# Altium integrated library Silicon Labs Clocks and Oscillators.IntLib: 678 symbols (part 7 of 45)
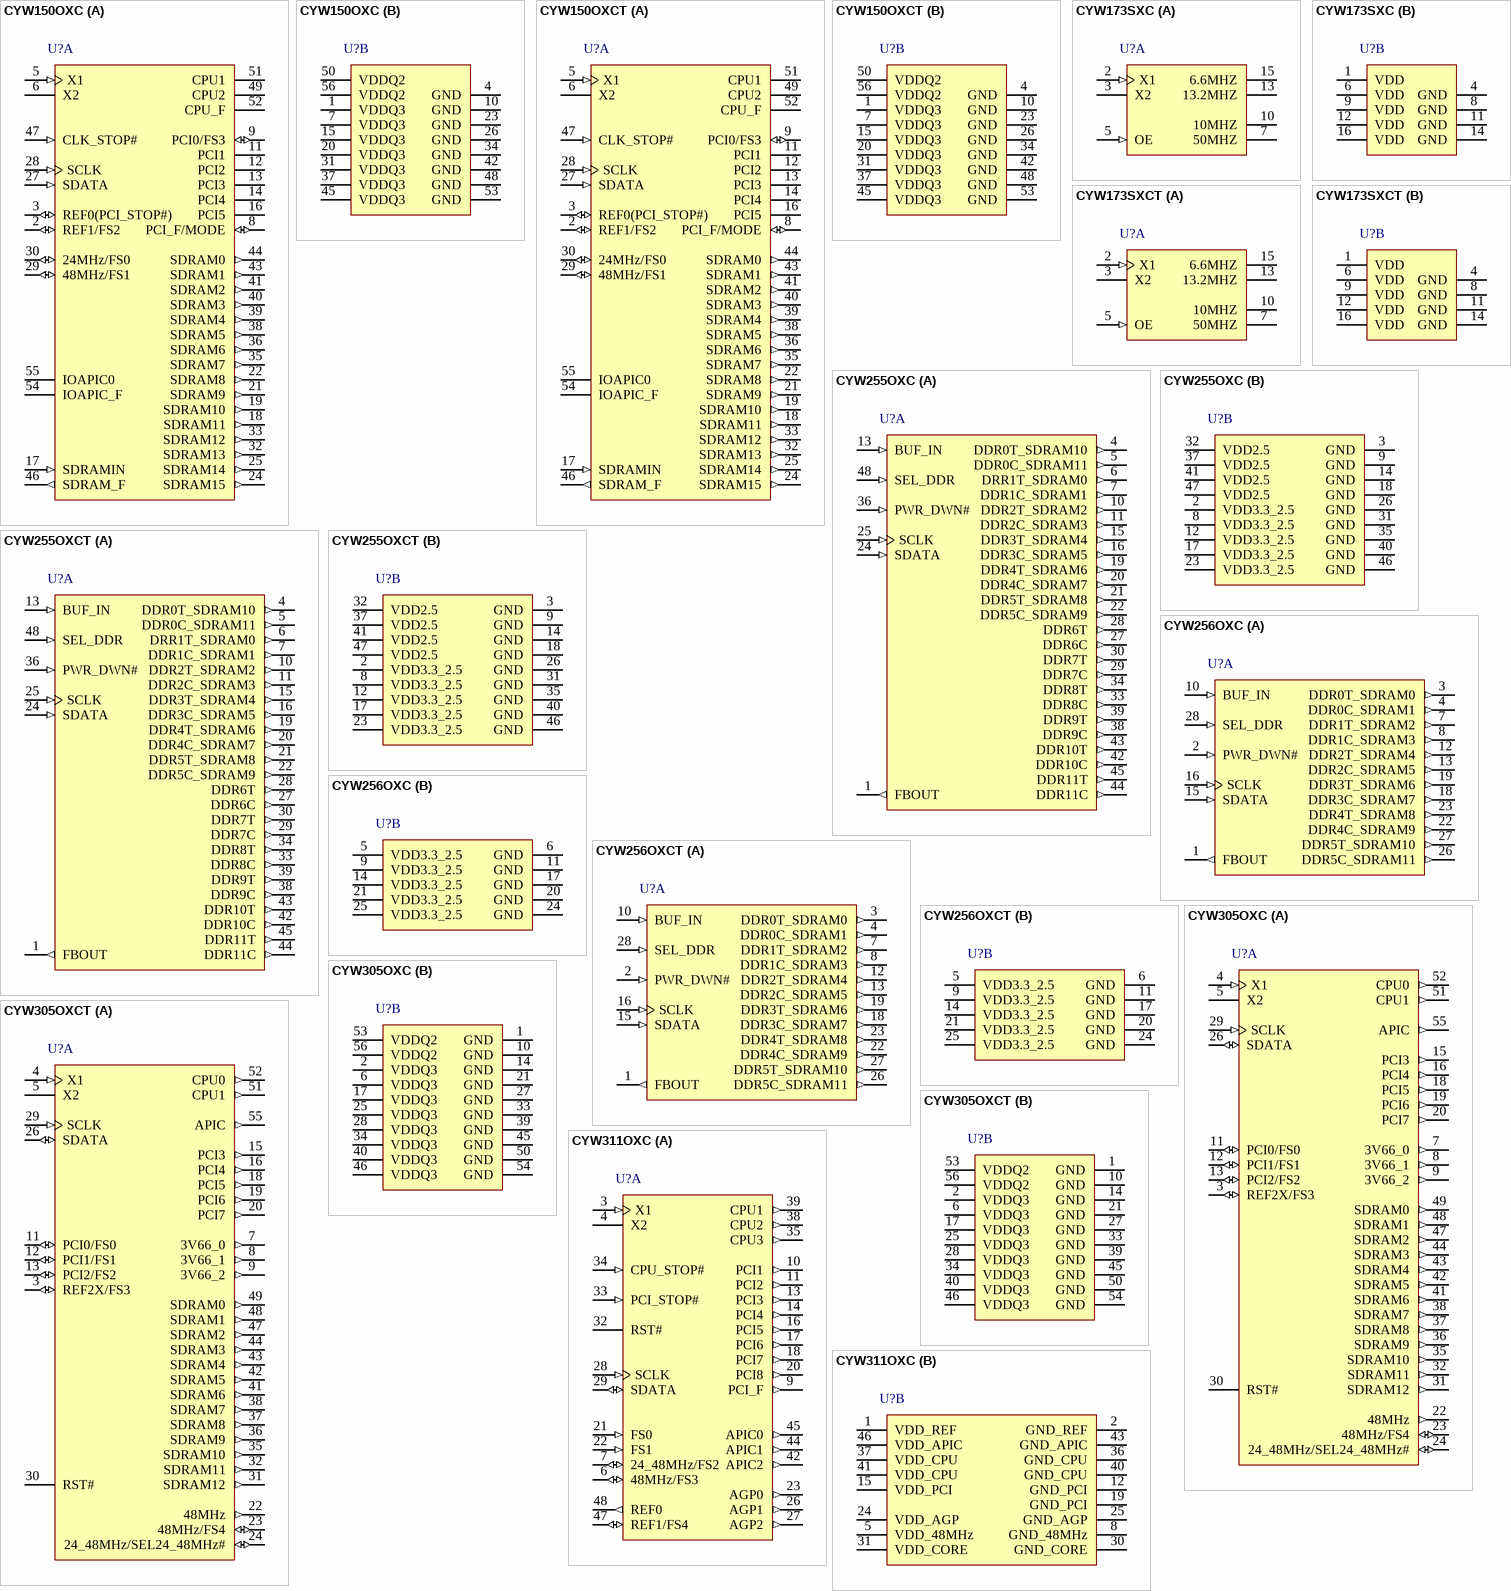
[diagram p50: symbols CYW150OXC to CYW311OXC]

## CYW255OXCT
designator U?
24 Output Buffer for 4 DDR or 3 SDRAM DIMMS, 2.5 / 3.3 V, 66 to 200 MHz Output, 0 to 70 degC, 48-pin SOP, Tape and Reel; Manufacturer: Silicon Labs; PartNumber: CYW255OXCT; Output Format: SSTL2; LVCMOS; Phase Jitter (RMS): > 1 ps; Reference Inputs: 1; VDD: 2.5 V; 3.3 V; Sub-Family: Clock Generators; DatasheetVersion: Rev. *D; PackageReference: SSOP-48; PackageDescription: 48-Pin Shrink Small-Outline Package, Body 15.875 x 7.51 mm, Pitch 0.635 mm; Supplier 1: Digi-Key; Supplier Part Number 1: CYW255OXCT-ND; Supplier 2: Mouser; Supplier Part Number 2: 634-CYW255OXCT; Output Frequency (MHz): 66 to 200; Packing: Tape and Reel; Mounting Technology: Surface Mount; ComponentLink1Description: Manufacturer URL; ComponentLink1URL: http://www.silabs.com/; ComponentLink2Description: Datasheet; ComponentLink2URL: http://www.silabs.com/Support%20Documents/TechnicalDocs/W255.pdf; ComponentLink3Description: Package Specification; ComponentLink3URL: http://www.silabs.com/Support%20Documents/TechnicalDocs/W255.pdf
footprint SLAB-SSOP-48_N (SOP, 48-Leads, Body 16x7.6mm, Pitch 0.635mm, IPC Medium Density)
footprint SLAB-SSOP-48_L (SOP, 48-Leads, Body 16x7.6mm, Pitch 0.635mm, IPC High Density)
footprint SLAB-SSOP-48_M (SOP, 48-Leads, Body 16x7.6mm, Pitch 0.635mm, IPC Low Density)
part A pins: 1 FBOUT (out) "Feedback clock for chipset. Output voltage depends on VDD3.3_2.5V.", 4 DDR0T_SDRAM10 (out) "Clock outputs. These outputs provide copies of BUF_IN. Voltage swing depends on VDD3.3_2.5 power supply.", 5 DDR0C_SDRAM11 (out) "Clock outputs. These outputs provide complementary copies of BUF_IN when SEL_DDR is active. These outputs provide copies of BUF_IN when SEL_DDR is inactive. Voltage swing depends on VDD3.3_2.5 power supply.", 6 DRR1T_SDRAM0 (out) "Clock outputs. These outputs provide copies of BUF_IN. Voltage swing depends on VDD3.3_2.5 power supply.", 7 DDR1C_SDRAM1 (out) "Clock outputs. These outputs provide complementary copies of BUF_IN when SEL_DDR is active. These outputs provide copies of BUF_IN when SEL_DDR is inactive. Voltage swing depends on VDD3.3_2.5 power supply.", 10 DDR2T_SDRAM2 (out) "Clock outputs. These outputs provide copies of BUF_IN. Voltage swing depends on VDD3.3_2.5 power supply.", 11 DDR2C_SDRAM3 (out) "Clock outputs. These outputs provide complementary copies of BUF_IN when SEL_DDR is active. These outputs provide copies of BUF_IN when SEL_DDR is inactive. Voltage swing depends on VDD3.3_2.5 power supply.", 13 BUF_IN (in) "Reference input from chipset. 2.5V input for DDR-ONLY mode; 3.3V input for STANDARD SDRAM mode.", 15 DDR3T_SDRAM4 (out) "Clock outputs. These outputs provide copies of BUF_IN. Voltage swing depends on VDD3.3_2.5 power supply.", 16 DDR3C_SDRAM5 (out) "Clock outputs. These outputs provide complementary copies of BUF_IN when SEL_DDR is active. These outputs provide copies of BUF_IN when SEL_DDR is inactive. Voltage swing depends on VDD3.3_2.5 power supply.", 19 DDR4T_SDRAM6 (out) "Clock outputs. These outputs provide copies of BUF_IN. Voltage swing depends on VDD3.3_2.5 power supply.", 20 DDR4C_SDRAM7 (out) "Clock outputs. These outputs provide complementary copies of BUF_IN when SEL_DDR is active. These outputs provide copies of BUF_IN when SEL_DDR is inactive. Voltage swing depends on VDD3.3_2.5 power supply.", 21 DDR5T_SDRAM8 (out) "Clock outputs. These outputs provide copies of BUF_IN. Voltage swing depends on VDD3.3_2.5 power supply.", 22 DDR5C_SDRAM9 (out) "Clock outputs. These outputs provide complementary copies of BUF_IN when SEL_DDR is active. These outputs provide copies of BUF_IN when SEL_DDR is inactive. Voltage swing depends on VDD3.3_2.5 power supply.", 24 SDATA (in) "SMBus data input", 25 SCLK (in) "SMBus clock input", 27 DDR6C (out) "Clock outputs. These outputs provide complementary copies of BUF_IN.", 28 DDR6T (out) "Clock outputs. These outputs provide copies of BUF_IN.", 29 DDR7C (out) "Clock outputs. These outputs provide complementary copies of BUF_IN.", 30 DDR7T (out) "Clock outputs. These outputs provide copies of BUF_IN.", 33 DDR8C (out) "Clock outputs. These outputs provide complementary copies of BUF_IN.", 34 DDR8T (out) "Clock outputs. These outputs provide copies of BUF_IN.", 36 PWR_DWN# (in) "Active LOW input to enable power-down mode; all outputs will be pulled LOW.", 38 DDR9C (out) "Clock outputs. These outputs provide complementary copies of BUF_IN.", 39 DDR9T (out) "Clock outputs. These outputs provide copies of BUF_IN.", 42 DDR10C (out) "Clock outputs. These outputs provide complementary copies of BUF_IN.", 43 DDR10T (out) "Clock outputs. These outputs provide copies of BUF_IN.", 44 DDR11C (out) "Clock outputs. These outputs provide complementary copies of BUF_IN.", 45 DDR11T (out) "Clock outputs. These outputs provide copies of BUF_IN.", 48 SEL_DDR (in) "Input to configure for DDR-ONLY mode or STANDARD SDRAM mode. 1 = DDR-ONLY mode. 0 = STANDARD SDRAM mode. When SEL_DDR is pulled HIGH or configured for DDR-ONLY mode, pin 4, 5, 6, 7, 10, 11,15, 16, 19, 20, 21, 22, 27, 28, 29, (See Datasheet)"
part B pins: 2 VDD3.3_2.5 (power) "Connect to 2.5V power supply when W255 is configured for DDR-ONLY mode. Connect to 3.3V power supply, when W255 is configured for standard SDRAM mode.", 3 GND (power) "Ground", 8 VDD3.3_2.5 (power) "Connect to 2.5V power supply when W255 is configured for DDR-ONLY mode. Connect to 3.3V power supply, when W255 is configured for standard SDRAM mode.", 9 GND (power) "Ground", 12 VDD3.3_2.5 (power) "Connect to 2.5V power supply when W255 is configured for DDR-ONLY mode. Connect to 3.3V power supply, when W255 is configured for standard SDRAM mode.", 14 GND (power) "Ground", 17 VDD3.3_2.5 (power) "Connect to 2.5V power supply when W255 is configured for DDR-ONLY mode. Connect to 3.3V power supply, when W255 is configured for standard SDRAM mode.", 18 GND (power) "Ground", 23 VDD3.3_2.5 (power) "Connect to 2.5V power supply when W255 is configured for DDR-ONLY mode. Connect to 3.3V power supply, when W255 is configured for standard SDRAM mode.", 26 GND (power) "Ground", 31 GND (power) "Ground", 32 VDD2.5 (power) "2.5V voltage supply", 35 GND (power) "Ground", 37 VDD2.5 (power) "2.5V voltage supply", 40 GND (power) "Ground", 41 VDD2.5 (power) "2.5V voltage supply", 46 GND (power) "Ground", 47 VDD2.5 (power) "2.5V voltage supply"

## CYW256OXC
designator U?
12 Output Buffer for 2 DDR and 3 SRAM DIMMS, 2.5 / 3.3 V, 66 to 180 MHz Output, 0 to 70 degC, 28-pin SOP; Manufacturer: Silicon Labs; PartNumber: CYW256OXC; Output Format: SSTL2; LVCMOS; Reference Inputs: 1; VDD: 2.5 V; 3.3 V; Sub-Family: Clock Generators; DatasheetVersion: Rev. *C; PackageReference: SSOP-28; PackageDescription: 28-Pin Shrink Small-Outline Package, Body 10.2 x 5.3 mm, Pitch 0.65 mm; Supplier 1: Digi-Key; Supplier Part Number 1: CYW256OXC-ND; Supplier 2: Mouser; Supplier Part Number 2: 634-CYW256OXC; Output Frequency (MHz): 66 to 180; Mounting Technology: Surface Mount; ComponentLink1Description: Manufacturer URL; ComponentLink1URL: http://www.silabs.com/; ComponentLink2Description: Datasheet; ComponentLink2URL: http://www.silabs.com/Support%20Documents/TechnicalDocs/W256.pdf; ComponentLink3Description: Package Specification; ComponentLink3URL: http://www.silabs.com/Support%20Documents/TechnicalDocs/W256.pdf
footprint SLAB-SSOP-28_N (SOP, 28-Leads, Body 10.4x5.6mm, Pitch 0.65mm, IPC Medium Density)
footprint SLAB-SSOP-28_L (SOP, 28-Leads, Body 10.4x5.6mm, Pitch 0.65mm, IPC High Density)
footprint SLAB-SSOP-28_M (SOP, 28-Leads, Body 10.4x5.6mm, Pitch 0.65mm, IPC Low Density)
part A pins: 1 FBOUT (out) "Feedback clock for chipset. Output voltage depends on VDD3.3_2.5V.", 2 PWR_DWN# (in) "Active LOW input to enable Power Down mode; all outputs will be pulled LOW.", 3 DDR0T_SDRAM0 (out) "Clock outputs. These outputs provide copies of BUF_IN. Voltage swing depends on VDD3.3_2.5 power supply.", 4 DDR0C_SDRAM1 (out) "Clock outputs. These outputs provide complementary copies of BUF_IN when SEL_DDR is active. These outputs provide copies of BUF_IN when SEL_DDR is inactive. Voltage swing depends on VDD3.3_2.5 power supply.", 7 DDR1T_SDRAM2 (out) "Clock outputs. These outputs provide copies of BUF_IN. Voltage swing depends on VDD3.3_2.5 power supply.", 8 DDR1C_SDRAM3 (out) "Clock outputs. These outputs provide complementary copies of BUF_IN when SEL_DDR is active. These outputs provide copies of BUF_IN when SEL_DDR is inactive. Voltage swing depends on VDD3.3_2.5 power supply.", 10 BUF_IN (in) "Reference input from chipset. 2.5V input for DDR-ONLY mode; 3.3V input for STANDARD SDRAM mode.", 12 DDR2T_SDRAM4 (out) "Clock outputs. These outputs provide copies of BUF_IN. Voltage swing depends on VDD3.3_2.5 power supply.", 13 DDR2C_SDRAM5 (out) "Clock outputs. These outputs provide complementary copies of BUF_IN when SEL_DDR is active. These outputs provide copies of BUF_IN when SEL_DDR is inactive. Voltage swing depends on VDD3.3_2.5 power supply.", 15 SDATA (in) "SMBus data input.", 16 SCLK (in) "SMBus clock input.", 18 DDR3C_SDRAM7 (out) "Clock outputs. These outputs provide complementary copies of BUF_IN when SEL_DDR is active. These outputs provide copies of BUF_IN when SEL_DDR is inactive. Voltage swing depends on VDD3.3_2.5 power supply.", 19 DDR3T_SDRAM6 (out) "Clock outputs. These outputs provide copies of BUF_IN. Voltage swing depends on VDD3.3_2.5 power supply.", 22 DDR4C_SDRAM9 (out) "Clock outputs. These outputs provide complementary copies of BUF_IN when SEL_DDR is active. These outputs provide copies of BUF_IN when SEL_DDR is inactive. Voltage swing depends on VDD3.3_2.5 power supply.", 23 DDR4T_SDRAM8 (out) "Clock outputs. These outputs provide copies of BUF_IN. Voltage swing depends on VDD3.3_2.5 power supply.", 26 DDR5C_SDRAM11 (out) "Clock outputs. These outputs provide complementary copies of BUF_IN when SEL_DDR is active. These outputs provide copies of BUF_IN when SEL_DDR is inactive. Voltage swing depends on VDD3.3_2.5 power supply.", 27 DDR5T_SDRAM10 (out) "Clock outputs. These outputs provide copies of BUF_IN. Voltage swing depends on VDD3.3_2.5 power supply.", 28 SEL_DDR (in) "Input to configure for DDR-ONLY mode or STANDARD SDRAM mode. 1 = DDR-ONLY mode. 0 = STANDARD SDRAM mode. When SEL_DDR is pulled HIGH or configured for DDR-ONLY mode, all the buffers will be configured as DDR outputs. Connect (See Datasheet)"
part B pins: 5 VDD3.3_2.5 (power) "Connect to 2.5V power supply when W256 is configured for DDR-ONLY mode. Connect to 3.3V power supply, when W256 is configured for standard SDRAM mode.", 6 GND (power) "Ground.", 9 VDD3.3_2.5 (power) "Connect to 2.5V power supply when W256 is configured for DDR-ONLY mode. Connect to 3.3V power supply, when W256 is configured for standard SDRAM mode.", 11 GND (power) "Ground.", 14 VDD3.3_2.5 (power) "Connect to 2.5V power supply when W256 is configured for DDR-ONLY mode. Connect to 3.3V power supply, when W256 is configured for standard SDRAM mode.", 17 GND (power) "Ground.", 20 GND (power) "Ground.", 21 VDD3.3_2.5 (power) "Connect to 2.5V power supply when W256 is configured for DDR-ONLY mode. Connect to 3.3V power supply, when W256 is configured for standard SDRAM mode.", 24 GND (power) "Ground.", 25 VDD3.3_2.5 (power) "Connect to 2.5V power supply when W256 is configured for DDR-ONLY mode. Connect to 3.3V power supply, when W256 is configured for standard SDRAM mode."

## CYW256OXCT
designator U?
12 Output Buffer for 2 DDR and 3 SRAM DIMMS, 2.5 / 3.3 V, 66 to 180 MHz Output, 0 to 70 degC, 28-pin SOP, Tape and Reel; Manufacturer: Silicon Labs; PartNumber: CYW256OXCT; Output Format: SSTL2; LVCMOS; Phase Jitter (RMS): > 1 ps; Reference Inputs: 1; VDD: 2.5 V; 3.3 V; Sub-Family: Clock Generators; DatasheetVersion: Rev. *C; PackageReference: SSOP-28; PackageDescription: 28-Pin Shrink Small-Outline Package, Body 10.2 x 5.3 mm, Pitch 0.65 mm; Supplier 1: Digi-Key; Supplier Part Number 1: CYW256OXCT-ND; Supplier 2: Mouser; Supplier Part Number 2: 634-CYW256OXCT; Output Frequency (MHz): 66 to 180; Packing: Tape and Reel; Mounting Technology: Surface Mount; ComponentLink1Description: Manufacturer URL; ComponentLink1URL: http://www.silabs.com/; ComponentLink2Description: Datasheet; ComponentLink2URL: http://www.silabs.com/Support%20Documents/TechnicalDocs/W256.pdf; ComponentLink3Description: Package Specification; ComponentLink3URL: http://www.silabs.com/Support%20Documents/TechnicalDocs/W256.pdf
footprint SLAB-SSOP-28_N (SOP, 28-Leads, Body 10.4x5.6mm, Pitch 0.65mm, IPC Medium Density)
footprint SLAB-SSOP-28_L (SOP, 28-Leads, Body 10.4x5.6mm, Pitch 0.65mm, IPC High Density)
footprint SLAB-SSOP-28_M (SOP, 28-Leads, Body 10.4x5.6mm, Pitch 0.65mm, IPC Low Density)
part A pins: 1 FBOUT (out) "Feedback clock for chipset. Output voltage depends on VDD3.3_2.5V.", 2 PWR_DWN# (in) "Active LOW input to enable Power Down mode; all outputs will be pulled LOW.", 3 DDR0T_SDRAM0 (out) "Clock outputs. These outputs provide copies of BUF_IN. Voltage swing depends on VDD3.3_2.5 power supply.", 4 DDR0C_SDRAM1 (out) "Clock outputs. These outputs provide complementary copies of BUF_IN when SEL_DDR is active. These outputs provide copies of BUF_IN when SEL_DDR is inactive. Voltage swing depends on VDD3.3_2.5 power supply.", 7 DDR1T_SDRAM2 (out) "Clock outputs. These outputs provide copies of BUF_IN. Voltage swing depends on VDD3.3_2.5 power supply.", 8 DDR1C_SDRAM3 (out) "Clock outputs. These outputs provide complementary copies of BUF_IN when SEL_DDR is active. These outputs provide copies of BUF_IN when SEL_DDR is inactive. Voltage swing depends on VDD3.3_2.5 power supply.", 10 BUF_IN (in) "Reference input from chipset. 2.5V input for DDR-ONLY mode; 3.3V input for STANDARD SDRAM mode.", 12 DDR2T_SDRAM4 (out) "Clock outputs. These outputs provide copies of BUF_IN. Voltage swing depends on VDD3.3_2.5 power supply.", 13 DDR2C_SDRAM5 (out) "Clock outputs. These outputs provide complementary copies of BUF_IN when SEL_DDR is active. These outputs provide copies of BUF_IN when SEL_DDR is inactive. Voltage swing depends on VDD3.3_2.5 power supply.", 15 SDATA (in) "SMBus data input.", 16 SCLK (in) "SMBus clock input.", 18 DDR3C_SDRAM7 (out) "Clock outputs. These outputs provide complementary copies of BUF_IN when SEL_DDR is active. These outputs provide copies of BUF_IN when SEL_DDR is inactive. Voltage swing depends on VDD3.3_2.5 power supply.", 19 DDR3T_SDRAM6 (out) "Clock outputs. These outputs provide copies of BUF_IN. Voltage swing depends on VDD3.3_2.5 power supply.", 22 DDR4C_SDRAM9 (out) "Clock outputs. These outputs provide complementary copies of BUF_IN when SEL_DDR is active. These outputs provide copies of BUF_IN when SEL_DDR is inactive. Voltage swing depends on VDD3.3_2.5 power supply.", 23 DDR4T_SDRAM8 (out) "Clock outputs. These outputs provide copies of BUF_IN. Voltage swing depends on VDD3.3_2.5 power supply.", 26 DDR5C_SDRAM11 (out) "Clock outputs. These outputs provide complementary copies of BUF_IN when SEL_DDR is active. These outputs provide copies of BUF_IN when SEL_DDR is inactive. Voltage swing depends on VDD3.3_2.5 power supply.", 27 DDR5T_SDRAM10 (out) "Clock outputs. These outputs provide copies of BUF_IN. Voltage swing depends on VDD3.3_2.5 power supply.", 28 SEL_DDR (in) "Input to configure for DDR-ONLY mode or STANDARD SDRAM mode. 1 = DDR-ONLY mode. 0 = STANDARD SDRAM mode. When SEL_DDR is pulled HIGH or configured for DDR-ONLY mode, all the buffers will be configured as DDR outputs. Connect (See Datasheet)"
part B pins: 5 VDD3.3_2.5 (power) "Connect to 2.5V power supply when W256 is configured for DDR-ONLY mode. Connect to 3.3V power supply, when W256 is configured for standard SDRAM mode.", 6 GND (power) "Ground.", 9 VDD3.3_2.5 (power) "Connect to 2.5V power supply when W256 is configured for DDR-ONLY mode. Connect to 3.3V power supply, when W256 is configured for standard SDRAM mode.", 11 GND (power) "Ground.", 14 VDD3.3_2.5 (power) "Connect to 2.5V power supply when W256 is configured for DDR-ONLY mode. Connect to 3.3V power supply, when W256 is configured for standard SDRAM mode.", 17 GND (power) "Ground.", 20 GND (power) "Ground.", 21 VDD3.3_2.5 (power) "Connect to 2.5V power supply when W256 is configured for DDR-ONLY mode. Connect to 3.3V power supply, when W256 is configured for standard SDRAM mode.", 24 GND (power) "Ground.", 25 VDD3.3_2.5 (power) "Connect to 2.5V power supply when W256 is configured for DDR-ONLY mode. Connect to 3.3V power supply, when W256 is configured for standard SDRAM mode."

## CYW305OXC
designator U?
Frequency Controller with System Recovery for Intel(R) Integrated Core Logic, 3.3 V, 200 MHz Max Output, 0 to 70 degC, 56-pin SOP; Manufacturer: Silicon Labs; PartNumber: CYW305OXC; Output Frequency (MHz): 14.318; 24; 33; 48; 66; 66 to 200; Reference Inputs: 1; VDD: 3.3 V; Sub-Family: Clock Generators; DatasheetVersion: Rev. *B; PackageReference: SSOP-56; PackageDescription: 56-Pin Shrink Small-Outline Package, Body 18.415 x 7.51 mm, Pitch 0.635 mm; Supplier 1: Digi-Key; Supplier Part Number 1: CYW305OXC-ND; Supplier 2: Mouser; Supplier Part Number 2: 634-CYW305OXC; Mounting Technology: Surface Mount; ComponentLink1Description: Manufacturer URL; ComponentLink1URL: http://www.silabs.com/; ComponentLink2Description: Datasheet; ComponentLink2URL: http://www.silabs.com/Support%20Documents/TechnicalDocs/W305B.pdf; ComponentLink3Description: Package Specification; ComponentLink3URL: http://www.silabs.com/Support%20Documents/TechnicalDocs/W158.pdf
footprint SLAB-SSOP-56_N (SOP, 56-Leads, Body 18.5x7.6mm, Pitch 0.635mm, IPC Medium Density)
footprint SLAB-SSOP-56_L (SOP, 56-Leads, Body 18.5x7.6mm, Pitch 0.635mm, IPC High Density)
footprint SLAB-SSOP-56_M (SOP, 56-Leads, Body 18.5x7.6mm, Pitch 0.635mm, IPC Low Density)
part A pins: 3 REF2X/FS3 (io), 4 X1 (in), 5 X2, 7 3V66_0 (out), 8 3V66_1 (out), 9 3V66_2 (out), 11 PCI0/FS0 (io), 12 PCI1/FS1 (io), 13 PCI2/FS2 (io), 15 PCI3 (out), 16 PCI4 (out), 18 PCI5 (out), 19 PCI6 (out), 20 PCI7 (out), 22 48MHz (out), 23 48MHz/FS4 (io), 24 24_48MHz/SEL24_48MHz# (io), 26 SDATA (io) "Data pin for SMBus circuitry.", 29 SCLK (in) "Clock pin for SMBus circuitry.", 30 RST# (oc), 31 SDRAM12 (out), 32 SDRAM11 (out), 35 SDRAM10 (out), 36 SDRAM9 (out), 37 SDRAM8 (out), 38 SDRAM7 (out), 41 SDRAM6 (out), 42 SDRAM5 (out), 43 SDRAM4 (out), 44 SDRAM3 (out), 47 SDRAM2 (out), 48 SDRAM1 (out), 49 SDRAM0 (out), 51 CPU1 (out), 52 CPU0 (out), 55 APIC (out)
part B pins: 1 GND (power), 2 VDDQ3 (power), 6 VDDQ3 (power), 10 GND (power), 14 GND (power), 17 VDDQ3 (power), 21 GND (power), 25 VDDQ3 (power), 27 GND (power), 28 VDDQ3 (power), 33 GND (power), 34 VDDQ3 (power), 39 GND (power), 40 VDDQ3 (power), 45 GND (power), 46 VDDQ3 (power), 50 GND (power), 53 VDDQ2 (power), 54 GND (power), 56 VDDQ2 (power)

## CYW305OXCT
designator U?
Frequency Controller with System Recovery for Intel(R) Integrated Core Logic, 3.3 V, 200 MHz Max Output, 0 to 70 degC, 56-pin SOP, Tape and Reel; Manufacturer: Silicon Labs; PartNumber: CYW305OXCT; Output Frequency (MHz): 14.318; 24; 33; 48; 66; 66 to 200; Reference Inputs: 1; VDD: 3.3 V; Sub-Family: Clock Generators; DatasheetVersion: Rev. *B; PackageReference: SSOP-56; PackageDescription: 56-Pin Shrink Small-Outline Package, Body 18.415 x 7.51 mm, Pitch 0.635 mm; Supplier 1: Digi-Key; Supplier Part Number 1: CYW305OXCT-ND; Supplier 2: Mouser; Supplier Part Number 2: 634-CYW305OXCT; Packing: Tape and Reel; Mounting Technology: Surface Mount; ComponentLink1Description: Manufacturer URL; ComponentLink1URL: http://www.silabs.com/; ComponentLink2Description: Datasheet; ComponentLink2URL: http://www.silabs.com/Support%20Documents/TechnicalDocs/W305B.pdf; ComponentLink3Description: Package Specification; ComponentLink3URL: http://www.silabs.com/Support%20Documents/TechnicalDocs/W158.pdf
footprint SLAB-SSOP-56_N (SOP, 56-Leads, Body 18.5x7.6mm, Pitch 0.635mm, IPC Medium Density)
footprint SLAB-SSOP-56_L (SOP, 56-Leads, Body 18.5x7.6mm, Pitch 0.635mm, IPC High Density)
footprint SLAB-SSOP-56_M (SOP, 56-Leads, Body 18.5x7.6mm, Pitch 0.635mm, IPC Low Density)
part A pins: 3 REF2X/FS3 (io), 4 X1 (in), 5 X2, 7 3V66_0 (out), 8 3V66_1 (out), 9 3V66_2 (out), 11 PCI0/FS0 (io), 12 PCI1/FS1 (io), 13 PCI2/FS2 (io), 15 PCI3 (out), 16 PCI4 (out), 18 PCI5 (out), 19 PCI6 (out), 20 PCI7 (out), 22 48MHz (out), 23 48MHz/FS4 (io), 24 24_48MHz/SEL24_48MHz# (io), 26 SDATA (io) "Data pin for SMBus circuitry.", 29 SCLK (in) "Clock pin for SMBus circuitry.", 30 RST# (oc), 31 SDRAM12 (out), 32 SDRAM11 (out), 35 SDRAM10 (out), 36 SDRAM9 (out), 37 SDRAM8 (out), 38 SDRAM7 (out), 41 SDRAM6 (out), 42 SDRAM5 (out), 43 SDRAM4 (out), 44 SDRAM3 (out), 47 SDRAM2 (out), 48 SDRAM1 (out), 49 SDRAM0 (out), 51 CPU1 (out), 52 CPU0 (out), 55 APIC (out)
part B pins: 1 GND (power), 2 VDDQ3 (power), 6 VDDQ3 (power), 10 GND (power), 14 GND (power), 17 VDDQ3 (power), 21 GND (power), 25 VDDQ3 (power), 27 GND (power), 28 VDDQ3 (power), 33 GND (power), 34 VDDQ3 (power), 39 GND (power), 40 VDDQ3 (power), 45 GND (power), 46 VDDQ3 (power), 50 GND (power), 53 VDDQ2 (power), 54 GND (power), 56 VDDQ2 (power)

## CYW311OXC
designator U?
FTG for VIA(TM) Pro-266 DDR Chipset, 3.3 V, 200 MHz Max Output, 0 to 70 degC, 48-pin SOP; Manufacturer: Silicon Labs; PartNumber: CYW311OXC; Output Format: LVCMOS; Output Frequency (MHz): 14.318; 24; 33; 48; 66; 66 to 200; Reference Inputs: 1; VDD: 3.3 V; Sub-Family: Clock Generators; DatasheetVersion: Rev. **; PackageReference: SSOP-48; PackageDescription: 48-Pin Shrink Small-Outline Package, Body 15.875 x 7.51 mm, Pitch 0.635 mm; Supplier 1: Digi-Key; Supplier Part Number 1: CYW311OXC-ND; Supplier 2: Mouser; Supplier Part Number 2: 634-CYW311OXC; Mounting Technology: Surface Mount; ComponentLink1Description: Manufacturer URL; ComponentLink1URL: http://www.silabs.com/; ComponentLink2Description: Datasheet; ComponentLink2URL: http://www.silabs.com/Support%20Documents/TechnicalDocs/W311.pdf; ComponentLink3Description: Package Specification; ComponentLink3URL: http://www.silabs.com/Support%20Documents/TechnicalDocs/W255.pdf
footprint SLAB-SSOP-48_N (SOP, 48-Leads, Body 16x7.6mm, Pitch 0.635mm, IPC Medium Density)
footprint SLAB-SSOP-48_L (SOP, 48-Leads, Body 16x7.6mm, Pitch 0.635mm, IPC High Density)
footprint SLAB-SSOP-48_M (SOP, 48-Leads, Body 16x7.6mm, Pitch 0.635mm, IPC Low Density)
part A pins: 3 X1 (in) "Crystal Connection or External Reference Frequency Input: This pin has dual functions. It can be used as an external 14.318 MHz crystal connection or as an external reference frequency input.", 4 X2 "Crystal Connection: An input connection for an external 14.318 MHz crystal. If using an external reference, this pin must be left unconnected.", 6 48MHz/FS3 (io) "48 MHz Output/Frequency Select 3: 48 MHz is provided in normal operation. In standard PC systems, this output can be used as the reference for the Universal Serial Bus host controller. This pin also serves as a power-on (See Datasheet)", 7 24_48MHz/FS2 (io) "24_48 MHz Output/Frequency Select 2: In standard PC systems, this output can be used as the clock input for a Super I/O chip. The output frequency is controlled by Configuration Byte 3 bit[6]. The default output frequency is (See Datasheet)", 9 PCI_F (out) "Free-Running PCI Clock Output: Frequency is set by FS0:4 inputs or through serial input interface; see Table 5 for details.", 10 PCI1 (out) "PCI Clock Outputs 1 through 8: Frequency is set by FS0:4 inputs or through serial input interface; see Table 5 for details. PCI1:8 outputs are gated by the PCI_STOP# input.", 11 PCI2 (out) "PCI Clock Outputs 1 through 8: Frequency is set by FS0:4 inputs or through serial input interface; see Table 5 for details. PCI1:8 outputs are gated by the PCI_STOP# input.", 13 PCI3 (out) "PCI Clock Outputs 1 through 8: Frequency is set by FS0:4 inputs or through serial input interface; see Table 5 for details. PCI1:8 outputs are gated by the PCI_STOP# input.", 14 PCI4 (out) "PCI Clock Outputs 1 through 8: Frequency is set by FS0:4 inputs or through serial input interface; see Table 5 for details. PCI1:8 outputs are gated by the PCI_STOP# input.", 16 PCI5 (out) "PCI Clock Outputs 1 through 8: Frequency is set by FS0:4 inputs or through serial input interface; see Table 5 for details. PCI1:8 outputs are gated by the PCI_STOP# input.", 17 PCI6 (out) "PCI Clock Outputs 1 through 8: Frequency is set by FS0:4 inputs or through serial input interface; see Table 5 for details. PCI1:8 outputs are gated by the PCI_STOP# input.", 18 PCI7 (out) "PCI Clock Outputs 1 through 8: Frequency is set by FS0:4 inputs or through serial input interface; see Table 5 for details. PCI1:8 outputs are gated by the PCI_STOP# input.", 20 PCI8 (out) "PCI Clock Outputs 1 through 8: Frequency is set by FS0:4 inputs or through serial input interface; see Table 5 for details. PCI1:8 outputs are gated by the PCI_STOP# input.", 21 FS0 (in) "Frequency Selection Inputs: Selects CPU clock frequency as shown in Table 1.", 22 FS1 (in) "Frequency Selection Inputs: Selects CPU clock frequency as shown in Table 1.", 23 AGP0 (out) "AGP Clock Output: This pin serves as the select strap to determine device operating frequency as described in Table 5.", 26 AGP1 (out) "AGP Clock Output: This pin serves as the select strap to determine device operating frequency as described in Table 5.", 27 AGP2 (out) "AGP Clock Output: This pin serves as the select strap to determine device operating frequency as described in Table 5.", 28 SCLK (in) "Clock pin for SMBus circuitry.", 29 SDATA (io) "Data pin for SMBus circuitry.", 32 RST# (oc) "System Reset Output: Open-drain system reset output.", 33 PCI_STOP# (in) "PCI_STOP# Input: 3.3V LVTTL-compatible input that stops PCI1:8.", 34 CPU_STOP# (in) "CPU Output Control: 3.3V LVTTL-compatible input that stop CPU1:3.", 35 CPU3 (out) "CPU Clock Output: Frequency is set by the FS0:4 input or through serial input interface. The CPU1:3 outputs are gated by the CLK_STOP# input.", 38 CPU2 (out) "CPU Clock Output: Frequency is set by the FS0:4 input or through serial input interface. The CPU1:3 outputs are gated by the CLK_STOP# input.", 39 CPU1 (out) "CPU Clock Output: Frequency is set by the FS0:4 input or through serial input interface. The CPU1:3 outputs are gated by the CLK_STOP# input.", 42 APIC2 (out) "APIC Clock Output: APIC clock outputs.", 44 APIC1 (out) "APIC Clock Output: APIC clock outputs.", 45 APIC0 (out) "APIC Clock Output: APIC clock outputs.", 47 REF1/FS4 (io) "Reference Clock Output 1/Frequency Select 4: 3.3V 14.318 MHz output clock. This pin also serves as a power-on strap option to determine device operating frequency as described in Table 5.", 48 REF0 (out) "Reference Clock Output 0: 3.3V 14.318 MHz output clock."
part B pins: 1 VDD_REF (power) "Power Connection: Power supply for core logic, PLL circuitry, PCI outputs, reference outputs, 48 MHz output, and 24-48 MHz output, connect to 3.3V supply.", 2 GND_REF (power), 5 VDD_48MHz (power) "Power Connection: Power supply for core logic, PLL circuitry, PCI outputs, reference outputs, 48 MHz output, and 24-48 MHz output, connect to 3.3V supply.", 8 GND_48MHz (power), 12 GND_PCI (power), 15 VDD_PCI (power) "Power Connection: Power supply for core logic, PLL circuitry, PCI outputs, reference outputs, 48 MHz output, and 24-48 MHz output, connect to 3.3V supply.", 19 GND_PCI (power), 24 VDD_AGP (power) "Power Connection: Power supply for core logic, PLL circuitry, PCI outputs, reference outputs, 48 MHz output, and 24-48 MHz output, connect to 3.3V supply.", 25 GND_AGP (power), 30 GND_CORE (power), 31 VDD_CORE (power) "Power Connection: Power supply for core logic, PLL circuitry, PCI outputs, reference outputs, 48 MHz output, and 24-48 MHz output, connect to 3.3V supply.", 36 GND_CPU (power), 37 VDD_CPU (power) "Power Connection: Power supply for APIC and CPU output buffers, connect to 2.5V.", 40 GND_CPU (power), 41 VDD_CPU (power) "Power Connection: Power supply for APIC and CPU output buffers, connect to 2.5V.", 43 GND_APIC (power), 46 VDD_APIC (power) "Power Connection: Power supply for APIC and CPU output buffers, connect to 2.5V."

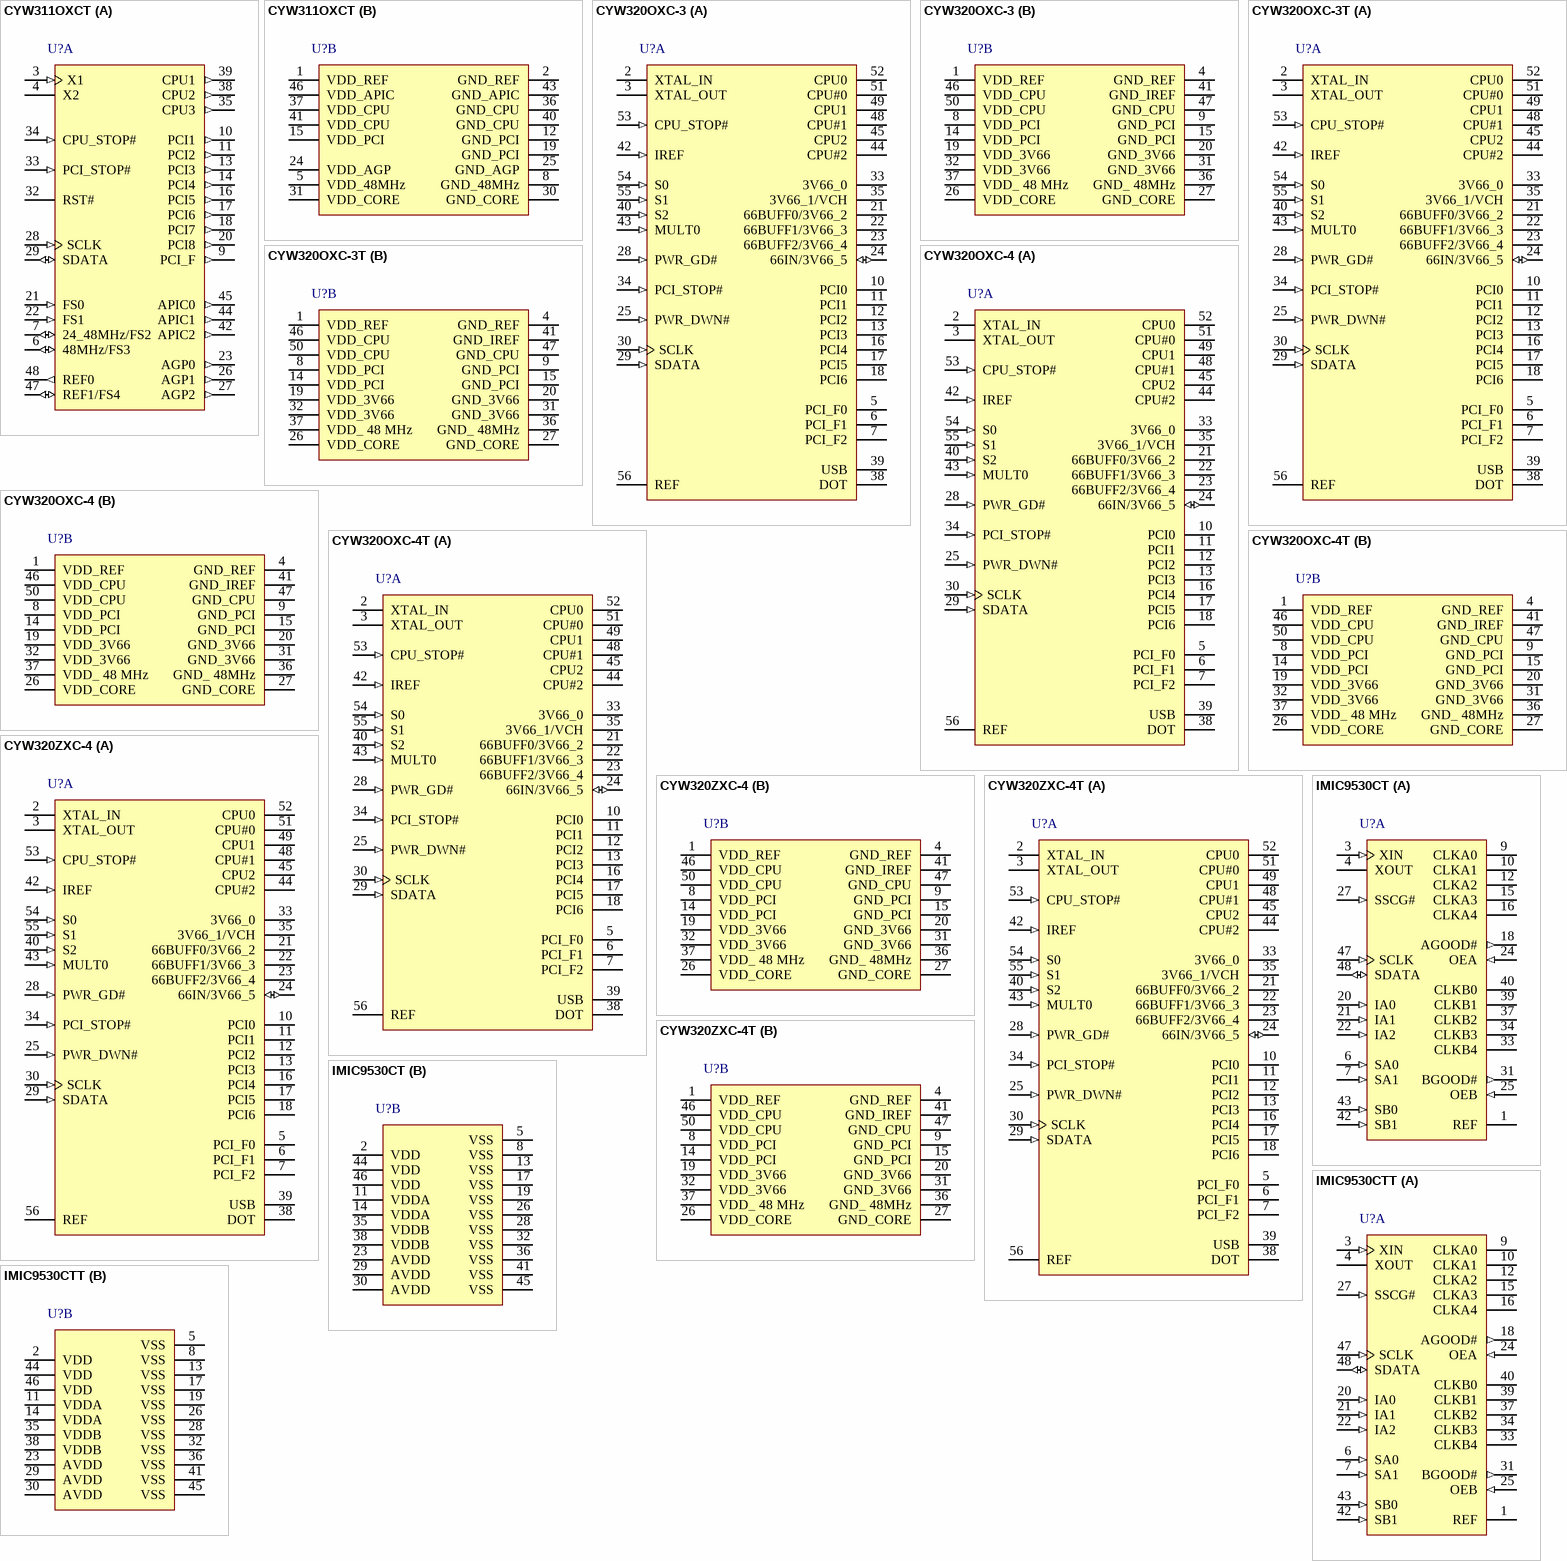
[diagram p7: symbols CYW311OXCT to IMIC9530CTT]

## CYW311OXCT
designator U?
FTG for VIA(TM) Pro-266 DDR Chipset, 3.3 V, 200 MHz Max Output, 0 to 70 degC, 48-pin SOP, Tape and Reel; Manufacturer: Silicon Labs; PartNumber: CYW311OXCT; Output Format: LVCMOS; Output Frequency (MHz): 14.318; 24; 33; 48; 66; 66 to 200; Phase Jitter (RMS): > 1 ps; Reference Inputs: 1; VDD: 3.3 V; Sub-Family: Clock Generators; DatasheetVersion: Rev. **; PackageReference: SSOP-48; PackageDescription: 48-Pin Shrink Small-Outline Package, Body 15.875 x 7.51 mm, Pitch 0.635 mm; Supplier 1: Digi-Key; Supplier Part Number 1: CYW311OXCT-ND; Supplier 2: Mouser; Supplier Part Number 2: 634-CYW311OXCT; Packing: Tape and Reel; Mounting Technology: Surface Mount; ComponentLink1Description: Manufacturer URL; ComponentLink1URL: http://www.silabs.com/; ComponentLink2Description: Datasheet; ComponentLink2URL: http://www.silabs.com/Support%20Documents/TechnicalDocs/W311.pdf; ComponentLink3Description: Package Specification; ComponentLink3URL: http://www.silabs.com/Support%20Documents/TechnicalDocs/W255.pdf
footprint SLAB-SSOP-48_N (SOP, 48-Leads, Body 16x7.6mm, Pitch 0.635mm, IPC Medium Density)
footprint SLAB-SSOP-48_L (SOP, 48-Leads, Body 16x7.6mm, Pitch 0.635mm, IPC High Density)
footprint SLAB-SSOP-48_M (SOP, 48-Leads, Body 16x7.6mm, Pitch 0.635mm, IPC Low Density)
part A pins: 3 X1 (in) "Crystal Connection or External Reference Frequency Input: This pin has dual functions. It can be used as an external 14.318 MHz crystal connection or as an external reference frequency input.", 4 X2 "Crystal Connection: An input connection for an external 14.318 MHz crystal. If using an external reference, this pin must be left unconnected.", 6 48MHz/FS3 (io) "48 MHz Output/Frequency Select 3: 48 MHz is provided in normal operation. In standard PC systems, this output can be used as the reference for the Universal Serial Bus host controller. This pin also serves as a power-on (See Datasheet)", 7 24_48MHz/FS2 (io) "24_48 MHz Output/Frequency Select 2: In standard PC systems, this output can be used as the clock input for a Super I/O chip. The output frequency is controlled by Configuration Byte 3 bit[6]. The default output frequency is (See Datasheet)", 9 PCI_F (out) "Free-Running PCI Clock Output: Frequency is set by FS0:4 inputs or through serial input interface; see Table 5 for details.", 10 PCI1 (out) "PCI Clock Outputs 1 through 8: Frequency is set by FS0:4 inputs or through serial input interface; see Table 5 for details. PCI1:8 outputs are gated by the PCI_STOP# input.", 11 PCI2 (out) "PCI Clock Outputs 1 through 8: Frequency is set by FS0:4 inputs or through serial input interface; see Table 5 for details. PCI1:8 outputs are gated by the PCI_STOP# input.", 13 PCI3 (out) "PCI Clock Outputs 1 through 8: Frequency is set by FS0:4 inputs or through serial input interface; see Table 5 for details. PCI1:8 outputs are gated by the PCI_STOP# input.", 14 PCI4 (out) "PCI Clock Outputs 1 through 8: Frequency is set by FS0:4 inputs or through serial input interface; see Table 5 for details. PCI1:8 outputs are gated by the PCI_STOP# input.", 16 PCI5 (out) "PCI Clock Outputs 1 through 8: Frequency is set by FS0:4 inputs or through serial input interface; see Table 5 for details. PCI1:8 outputs are gated by the PCI_STOP# input.", 17 PCI6 (out) "PCI Clock Outputs 1 through 8: Frequency is set by FS0:4 inputs or through serial input interface; see Table 5 for details. PCI1:8 outputs are gated by the PCI_STOP# input.", 18 PCI7 (out) "PCI Clock Outputs 1 through 8: Frequency is set by FS0:4 inputs or through serial input interface; see Table 5 for details. PCI1:8 outputs are gated by the PCI_STOP# input.", 20 PCI8 (out) "PCI Clock Outputs 1 through 8: Frequency is set by FS0:4 inputs or through serial input interface; see Table 5 for details. PCI1:8 outputs are gated by the PCI_STOP# input.", 21 FS0 (in) "Frequency Selection Inputs: Selects CPU clock frequency as shown in Table 1.", 22 FS1 (in) "Frequency Selection Inputs: Selects CPU clock frequency as shown in Table 1.", 23 AGP0 (out) "AGP Clock Output: This pin serves as the select strap to determine device operating frequency as described in Table 5.", 26 AGP1 (out) "AGP Clock Output: This pin serves as the select strap to determine device operating frequency as described in Table 5.", 27 AGP2 (out) "AGP Clock Output: This pin serves as the select strap to determine device operating frequency as described in Table 5.", 28 SCLK (in) "Clock pin for SMBus circuitry.", 29 SDATA (io) "Data pin for SMBus circuitry.", 32 RST# (oc) "System Reset Output: Open-drain system reset output.", 33 PCI_STOP# (in) "PCI_STOP# Input: 3.3V LVTTL-compatible input that stops PCI1:8.", 34 CPU_STOP# (in) "CPU Output Control: 3.3V LVTTL-compatible input that stop CPU1:3.", 35 CPU3 (out) "CPU Clock Output: Frequency is set by the FS0:4 input or through serial input interface. The CPU1:3 outputs are gated by the CLK_STOP# input.", 38 CPU2 (out) "CPU Clock Output: Frequency is set by the FS0:4 input or through serial input interface. The CPU1:3 outputs are gated by the CLK_STOP# input.", 39 CPU1 (out) "CPU Clock Output: Frequency is set by the FS0:4 input or through serial input interface. The CPU1:3 outputs are gated by the CLK_STOP# input.", 42 APIC2 (out) "APIC Clock Output: APIC clock outputs.", 44 APIC1 (out) "APIC Clock Output: APIC clock outputs.", 45 APIC0 (out) "APIC Clock Output: APIC clock outputs.", 47 REF1/FS4 (io) "Reference Clock Output 1/Frequency Select 4: 3.3V 14.318 MHz output clock. This pin also serves as a power-on strap option to determine device operating frequency as described in Table 5.", 48 REF0 (out) "Reference Clock Output 0: 3.3V 14.318 MHz output clock."
part B pins: 1 VDD_REF (power) "Power Connection: Power supply for core logic, PLL circuitry, PCI outputs, reference outputs, 48 MHz output, and 24-48 MHz output, connect to 3.3V supply.", 2 GND_REF (power), 5 VDD_48MHz (power) "Power Connection: Power supply for core logic, PLL circuitry, PCI outputs, reference outputs, 48 MHz output, and 24-48 MHz output, connect to 3.3V supply.", 8 GND_48MHz (power), 12 GND_PCI (power), 15 VDD_PCI (power) "Power Connection: Power supply for core logic, PLL circuitry, PCI outputs, reference outputs, 48 MHz output, and 24-48 MHz output, connect to 3.3V supply.", 19 GND_PCI (power), 24 VDD_AGP (power) "Power Connection: Power supply for core logic, PLL circuitry, PCI outputs, reference outputs, 48 MHz output, and 24-48 MHz output, connect to 3.3V supply.", 25 GND_AGP (power), 30 GND_CORE (power), 31 VDD_CORE (power) "Power Connection: Power supply for core logic, PLL circuitry, PCI outputs, reference outputs, 48 MHz output, and 24-48 MHz output, connect to 3.3V supply.", 36 GND_CPU (power), 37 VDD_CPU (power) "Power Connection: Power supply for APIC and CPU output buffers, connect to 2.5V.", 40 GND_CPU (power), 41 VDD_CPU (power) "Power Connection: Power supply for APIC and CPU output buffers, connect to 2.5V.", 43 GND_APIC (power), 46 VDD_APIC (power) "Power Connection: Power supply for APIC and CPU output buffers, connect to 2.5V."

## CYW320OXC-3
designator U?
Spread Spectrum Clock Synthesizer / Driver with Differential CPU Outputs, 3.3 V, 200 MHz Max Output, 0 to 70 degC, 56-pin SOP; Manufacturer: Silicon Labs; PartNumber: CYW320OXC-3; Output Format: LVCMOS; Output Frequency (MHz): 14.318, 33, 48, 66, 66 to 200; Reference Inputs: 1; VDD: 3.3 V; Sub-Family: Clock Generators; DatasheetVersion: Rev. *C; PackageReference: SSOP-56; PackageDescription: 56-Pin Shrink Small-Outline Package, Body 18.415 x 7.51 mm, Pitch 0.635 mm; Supplier 1: Digi-Key; Supplier Part Number 1: CYW320OXC-3-ND; Supplier 2: Mouser; Supplier Part Number 2: 634-CYW320OXC-3; Mounting Technology: Surface Mount; ComponentLink1Description: Manufacturer URL; ComponentLink1URL: http://www.silabs.com/; ComponentLink2Description: Datasheet; ComponentLink2URL: http://www.silabs.com/Support%20Documents/TechnicalDocs/W320-03.pdf; ComponentLink3Description: Package Specification; ComponentLink3URL: http://www.silabs.com/Support%20Documents/TechnicalDocs/W158.pdf
footprint SLAB-SSOP-56_N (SOP, 56-Leads, Body 18.5x7.6mm, Pitch 0.635mm, IPC Medium Density)
footprint SLAB-SSOP-56_L (SOP, 56-Leads, Body 18.5x7.6mm, Pitch 0.635mm, IPC High Density)
footprint SLAB-SSOP-56_M (SOP, 56-Leads, Body 18.5x7.6mm, Pitch 0.635mm, IPC Low Density)
part A pins: 2 XTAL_IN "14.318 MHz crystal input", 3 XTAL_OUT, 5 PCI_F0 (hiz) "33 MHz clocks divided down from 66Input or divided down from 3V66", 6 PCI_F1 (hiz) "33 MHz clocks divided down from 66Input or divided down from 3V66", 7 PCI_F2 (hiz) "33 MHz clocks divided down from 66Input or divided down from 3V66", 10 PCI0 (hiz) "PCI clock outputs divided down from 66Input or divided down from 3V66", 11 PCI1 (hiz) "PCI clock outputs divided down from 66Input or divided down from 3V66", 12 PCI2 (hiz) "PCI clock outputs divided down from 66Input or divided down from 3V66", 13 PCI3 (hiz) "PCI clock outputs divided down from 66Input or divided down from 3V66", 16 PCI4 (hiz) "PCI clock outputs divided down from 66Input or divided down from 3V66", 17 PCI5 (hiz) "PCI clock outputs divided down from 66Input or divided down from 3V66", 18 PCI6 (hiz) "PCI clock outputs divided down from 66Input or divided down from 3V66", 21 66BUFF0/3V66_2 (hiz), 22 66BUFF1/3V66_3 (hiz), 23 66BUFF2/3V66_4 (hiz), 24 66IN/3V66_5 (io), 25 PWR_DWN# (in) "3.3V LVTTL input for Power_Down# (active LOW)", 28 PWR_GD# (in) "3.3V LVTTL input is a level sensitive strobe used to determine when S[2:0] and MULTI0 inputs are valid and OK to be sampled (Active LOW). Once PWRGD# is sampled LOW, the status of this output will be ignored.", 29 SDATA (in) "SMBus compatible SDATA", 30 SCLK (in) "SMBus compatible Sclk", 33 3V66_0 (hiz) "3.3V 66 MHz clock output", 34 PCI_STOP# (in) "3.3V LVTTL input for PCI_STOP# (active LOW)", 35 3V66_1/VCH (hiz) "3.3V selectable through SMBus to be 66 MHz or 48 MHz", 38 DOT (hiz) "Fixed 48 MHz clock output", 39 USB (hiz) "Fixed 48 MHz clock output", 40 S2 (in) "Special 3.3V 3 level input for Mode selection", 42 IREF (in) "A precision resistor is attached to this pin which is connected to the internal current reference", 43 MULT0 (in) "3.3V LVTTL input for selecting the current multiplier for the CPU outputs", 44 CPU#2 (hiz) "Differential CPU clock outputs", 45 CPU2 (hiz) "Differential CPU clock outputs", 48 CPU#1 (hiz) "Differential CPU clock outputs", 49 CPU1 (hiz) "Differential CPU clock outputs", 51 CPU#0 (hiz) "Differential CPU clock outputs", 52 CPU0 (hiz) "Differential CPU clock outputs", 53 CPU_STOP# (in) "3.3V LVTTL input for CPU_STOP# (active LOW)", 54 S0 (in) "3.3V LVTTL inputs for CPU frequency selection", 55 S1 (in) "3.3V LVTTL inputs for CPU frequency selection", 56 REF (hiz) "3.3V 14.318 MHz clock output"
part B pins: 1 VDD_REF (power) "3.3V power supply for outputs", 4 GND_REF (power) "Ground for outputs", 8 VDD_PCI (power) "3.3V power supply for outputs", 9 GND_PCI (power) "Ground for outputs", 14 VDD_PCI (power) "3.3V power supply for outputs", 15 GND_PCI (power) "Ground for outputs", 19 VDD_3V66 (power) "3.3V power supply for outputs", 20 GND_3V66 (power) "Ground for outputs", 26 VDD_CORE (power) "3.3V power supply for PLL", 27 GND_CORE (power) "Ground for PLL", 31 GND_3V66 (power) "Ground for outputs", 32 VDD_3V66 (power) "3.3V power supply for outputs", 36 GND_ 48MHz (power) "Ground for outputs", 37 VDD_ 48 MHz (power) "3.3V power supply for 48 MHz", 41 GND_IREF (power) "Ground for outputs", 46 VDD_CPU (power) "3.3V power supply for outputs", 47 GND_CPU (power) "Ground for outputs", 50 VDD_CPU (power) "3.3V power supply for outputs"

## CYW320OXC-3T
designator U?
Spread Spectrum Clock Synthesizer / Driver with Differential CPU Outputs, 3.3 V, 200 MHz Max Output, 0 to 70 degC, 56-pin SOP, Tape and Reel; Manufacturer: Silicon Labs; PartNumber: CYW320OXC-3T; Output Format: LVCMOS; Output Frequency (MHz): 14.318, 33, 48, 66, 66 to 200; Phase Jitter (RMS): > 1 ps; Reference Inputs: 1; VDD: 3.3 V; Sub-Family: Clock Generators; DatasheetVersion: Rev. *C; PackageReference: SSOP-56; PackageDescription: 56-Pin Shrink Small-Outline Package, Body 18.415 x 7.51 mm, Pitch 0.635 mm; Supplier 1: Digi-Key; Supplier Part Number 1: CYW320OXC-3T-ND; Supplier 2: Mouser; Supplier Part Number 2: 634-CYW320OXC-3T; Packing: Tape and Reel; Mounting Technology: Surface Mount; ComponentLink1Description: Manufacturer URL; ComponentLink1URL: http://www.silabs.com/; ComponentLink2Description: Datasheet; ComponentLink2URL: http://www.silabs.com/Support%20Documents/TechnicalDocs/W320-03.pdf; ComponentLink3Description: Package Specification; ComponentLink3URL: http://www.silabs.com/Support%20Documents/TechnicalDocs/W158.pdf
footprint SLAB-SSOP-56_N (SOP, 56-Leads, Body 18.5x7.6mm, Pitch 0.635mm, IPC Medium Density)
footprint SLAB-SSOP-56_L (SOP, 56-Leads, Body 18.5x7.6mm, Pitch 0.635mm, IPC High Density)
footprint SLAB-SSOP-56_M (SOP, 56-Leads, Body 18.5x7.6mm, Pitch 0.635mm, IPC Low Density)
part A pins: 2 XTAL_IN "14.318 MHz crystal input", 3 XTAL_OUT, 5 PCI_F0 (hiz) "33 MHz clocks divided down from 66Input or divided down from 3V66", 6 PCI_F1 (hiz) "33 MHz clocks divided down from 66Input or divided down from 3V66", 7 PCI_F2 (hiz) "33 MHz clocks divided down from 66Input or divided down from 3V66", 10 PCI0 (hiz) "PCI clock outputs divided down from 66Input or divided down from 3V66", 11 PCI1 (hiz) "PCI clock outputs divided down from 66Input or divided down from 3V66", 12 PCI2 (hiz) "PCI clock outputs divided down from 66Input or divided down from 3V66", 13 PCI3 (hiz) "PCI clock outputs divided down from 66Input or divided down from 3V66", 16 PCI4 (hiz) "PCI clock outputs divided down from 66Input or divided down from 3V66", 17 PCI5 (hiz) "PCI clock outputs divided down from 66Input or divided down from 3V66", 18 PCI6 (hiz) "PCI clock outputs divided down from 66Input or divided down from 3V66", 21 66BUFF0/3V66_2 (hiz), 22 66BUFF1/3V66_3 (hiz), 23 66BUFF2/3V66_4 (hiz), 24 66IN/3V66_5 (io), 25 PWR_DWN# (in) "3.3V LVTTL input for Power_Down# (active LOW)", 28 PWR_GD# (in) "3.3V LVTTL input is a level sensitive strobe used to determine when S[2:0] and MULTI0 inputs are valid and OK to be sampled (Active LOW). Once PWRGD# is sampled LOW, the status of this output will be ignored.", 29 SDATA (in) "SMBus compatible SDATA", 30 SCLK (in) "SMBus compatible Sclk", 33 3V66_0 (hiz) "3.3V 66 MHz clock output", 34 PCI_STOP# (in) "3.3V LVTTL input for PCI_STOP# (active LOW)", 35 3V66_1/VCH (hiz) "3.3V selectable through SMBus to be 66 MHz or 48 MHz", 38 DOT (hiz) "Fixed 48 MHz clock output", 39 USB (hiz) "Fixed 48 MHz clock output", 40 S2 (in) "Special 3.3V 3 level input for Mode selection", 42 IREF (in) "A precision resistor is attached to this pin which is connected to the internal current reference", 43 MULT0 (in) "3.3V LVTTL input for selecting the current multiplier for the CPU outputs", 44 CPU#2 (hiz) "Differential CPU clock outputs", 45 CPU2 (hiz) "Differential CPU clock outputs", 48 CPU#1 (hiz) "Differential CPU clock outputs", 49 CPU1 (hiz) "Differential CPU clock outputs", 51 CPU#0 (hiz) "Differential CPU clock outputs", 52 CPU0 (hiz) "Differential CPU clock outputs", 53 CPU_STOP# (in) "3.3V LVTTL input for CPU_STOP# (active LOW)", 54 S0 (in) "3.3V LVTTL inputs for CPU frequency selection", 55 S1 (in) "3.3V LVTTL inputs for CPU frequency selection", 56 REF (hiz) "3.3V 14.318 MHz clock output"
part B pins: 1 VDD_REF (power) "3.3V power supply for outputs", 4 GND_REF (power) "Ground for outputs", 8 VDD_PCI (power) "3.3V power supply for outputs", 9 GND_PCI (power) "Ground for outputs", 14 VDD_PCI (power) "3.3V power supply for outputs", 15 GND_PCI (power) "Ground for outputs", 19 VDD_3V66 (power) "3.3V power supply for outputs", 20 GND_3V66 (power) "Ground for outputs", 26 VDD_CORE (power) "3.3V power supply for PLL", 27 GND_CORE (power) "Ground for PLL", 31 GND_3V66 (power) "Ground for outputs", 32 VDD_3V66 (power) "3.3V power supply for outputs", 36 GND_ 48MHz (power) "Ground for outputs", 37 VDD_ 48 MHz (power) "3.3V power supply for 48 MHz", 41 GND_IREF (power) "Ground for outputs", 46 VDD_CPU (power) "3.3V power supply for outputs", 47 GND_CPU (power) "Ground for outputs", 50 VDD_CPU (power) "3.3V power supply for outputs"

## CYW320OXC-4
designator U?
Spread Spectrum Clock Synthesizer / Driver with Differential CPU Outputs, 3.3 V, 200 MHz Max Output, 0 to 70 degC, 56-pin SOP; Manufacturer: Silicon Labs; PartNumber: CYW320OXC-4; Output Format: LVCMOS; Output Frequency (MHz): 14.318, 33, 48, 66, 100, 133, 200; Reference Inputs: 1; VDD: 3.3 V; Sub-Family: Clock Generators; DatasheetVersion: Rev. *C; PackageReference: SSOP-56; PackageDescription: 56-Pin Shrink Small-Outline Package, Body 18.415 x 7.51 mm, Pitch 0.635 mm; Supplier 1: Digi-Key; Supplier Part Number 1: CYW320OXC-4-ND; Supplier 2: Mouser; Supplier Part Number 2: 634-CYW320OXC-4; Mounting Technology: Surface Mount; ComponentLink1Description: Manufacturer URL; ComponentLink1URL: http://www.silabs.com/; ComponentLink2Description: Datasheet; ComponentLink2URL: http://www.silabs.com/Support%20Documents/TechnicalDocs/W320-04.pdf; ComponentLink3Description: Package Specification; ComponentLink3URL: http://www.silabs.com/Support%20Documents/TechnicalDocs/W158.pdf
footprint SLAB-SSOP-56_N (SOP, 56-Leads, Body 18.5x7.6mm, Pitch 0.635mm, IPC Medium Density)
footprint SLAB-SSOP-56_L (SOP, 56-Leads, Body 18.5x7.6mm, Pitch 0.635mm, IPC High Density)
footprint SLAB-SSOP-56_M (SOP, 56-Leads, Body 18.5x7.6mm, Pitch 0.635mm, IPC Low Density)
part A pins: 2 XTAL_IN "14.318 MHz crystal input", 3 XTAL_OUT, 5 PCI_F0 (hiz) "33 MHz clocks divided down from 66Input or divided down from 3V66", 6 PCI_F1 (hiz) "33 MHz clocks divided down from 66Input or divided down from 3V66", 7 PCI_F2 (hiz) "33 MHz clocks divided down from 66Input or divided down from 3V66", 10 PCI0 (hiz) "PCI clock outputs divided down from 66Input or divided down from 3V66", 11 PCI1 (hiz) "PCI clock outputs divided down from 66Input or divided down from 3V66", 12 PCI2 (hiz) "PCI clock outputs divided down from 66Input or divided down from 3V66", 13 PCI3 (hiz) "PCI clock outputs divided down from 66Input or divided down from 3V66", 16 PCI4 (hiz) "PCI clock outputs divided down from 66Input or divided down from 3V66", 17 PCI5 (hiz) "PCI clock outputs divided down from 66Input or divided down from 3V66", 18 PCI6 (hiz) "PCI clock outputs divided down from 66Input or divided down from 3V66", 21 66BUFF0/3V66_2 (hiz), 22 66BUFF1/3V66_3 (hiz), 23 66BUFF2/3V66_4 (hiz), 24 66IN/3V66_5 (io), 25 PWR_DWN# (in) "3.3V LVTTL input for Power_Down# (active LOW)", 28 PWR_GD# (in) "3.3V LVTTL input is a level sensitive strobe used to determine when S[2:0] and MULTI0 inputs are valid and OK to be sampled (Active LOW). Once PWRGD# is sampled LOW, the status of this output will be ignored.", 29 SDATA (in) "SMBus compatible SDATA", 30 SCLK (in) "SMBus compatible Sclk", 33 3V66_0 (hiz) "3.3V 66 MHz clock output", 34 PCI_STOP# (in) "3.3V LVTTL input for PCI_STOP# (active LOW)", 35 3V66_1/VCH (hiz) "3.3V selectable through SMBus to be 66 MHz or 48 MHz", 38 DOT (hiz) "Fixed 48 MHz clock output", 39 USB (hiz) "Fixed 48 MHz clock output", 40 S2 (in) "Special 3.3V 3 level input for Mode selection", 42 IREF (in) "A precision resistor is attached to this pin which is connected to the internal current reference", 43 MULT0 (in) "3.3V LVTTL input for selecting the current multiplier for the CPU outputs", 44 CPU#2 (hiz) "Differential CPU clock outputs", 45 CPU2 (hiz) "Differential CPU clock outputs", 48 CPU#1 (hiz) "Differential CPU clock outputs", 49 CPU1 (hiz) "Differential CPU clock outputs", 51 CPU#0 (hiz) "Differential CPU clock outputs", 52 CPU0 (hiz) "Differential CPU clock outputs", 53 CPU_STOP# (in) "3.3V LVTTL input for CPU_STOP# (active LOW)", 54 S0 (in) "3.3V LVTTL inputs for CPU frequency selection", 55 S1 (in) "3.3V LVTTL inputs for CPU frequency selection", 56 REF (hiz) "3.3V 14.318 MHz clock output"
part B pins: 1 VDD_REF (power) "3.3V power supply for outputs", 4 GND_REF (power) "Ground for outputs", 8 VDD_PCI (power) "3.3V power supply for outputs", 9 GND_PCI (power) "Ground for outputs", 14 VDD_PCI (power) "3.3V power supply for outputs", 15 GND_PCI (power) "Ground for outputs", 19 VDD_3V66 (power) "3.3V power supply for outputs", 20 GND_3V66 (power) "Ground for outputs", 26 VDD_CORE (power) "3.3V power supply for PLL", 27 GND_CORE (power) "Ground for PLL", 31 GND_3V66 (power) "Ground for outputs", 32 VDD_3V66 (power) "3.3V power supply for outputs", 36 GND_ 48MHz (power) "Ground for outputs", 37 VDD_ 48 MHz (power) "3.3V power supply for 48 MHz", 41 GND_IREF (power) "Ground for outputs", 46 VDD_CPU (power) "3.3V power supply for outputs", 47 GND_CPU (power) "Ground for outputs", 50 VDD_CPU (power) "3.3V power supply for outputs"